# Altium footprint library LED_PcbLib.PcbLib: 3 footprints
Each footprint in its own frame and in the unit in brackets; x right, y up, seen from the top. Pads: shape width x height; smd on the part's side, far side on the other; paste and mask are expansions set on the pad; w line width, h text height; cw(c..) or ccw(c..) is an arc to the next point about the centre after c.
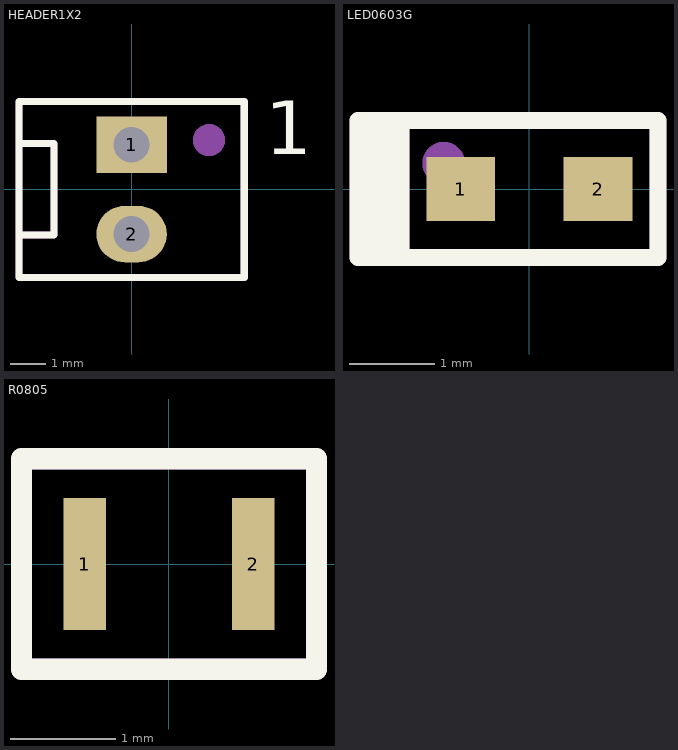
[diagram p0: the footprints below, top view; thin cyan lines are the x and y axes]

## HEADER1X2 [mm]
pads (2):
  rect 2x1.6 hole 1.02: 1(0,1.27)
  oval 2x1.6 hole 1.02: 2(0,-1.27)
Top Overlay:
  lines w0.2: -3.2,-1.3 -2.2,-1.3 -2.2,1.3 -3.2,1.3 ; -3.2,-2.5 3.2,-2.5 3.2,2.5 -3.2,2.5 -3.2,-2.5
  text "1" at 3.8,1 h1.52
Mechanical 29:
  circle w0.508: c2.2,1.4 r0.203
  lines w0.2: -3.2,-1.3 -2.2,-1.3 -2.2,1.3 -3.2,1.3 ; -3.2,-2.5 3.2,-2.5 3.2,2.5 -3.2,2.5 -3.2,-2.5
  text ".Designator" at -0.4,-1.4 h1.2
3D body: height 11.71, standoff -3.55, extent -2.9,-2.54 2.9,2.54

## LED0603G [mm]
pads (2):
  rect 0.8x0.75 smd: 1(-0.8,0) 2(0.8,0)
Top Overlay:
  rectangle: -2,-0.8 -1.4,0.8
  lines w0.2: -2,-0.8 -2,0.8 1.5,0.8 1.5,-0.8 -2,-0.8
Mechanical 29:
  circle w0.3: c-1,0.3 r0.1
  rectangle: -2,-0.8 -1.4,0.8
  lines w0.2: -2,-0.8 1.5,-0.8 1.5,0.8 -2,0.8 -2,-0.8
  text ".Designator" at -0.6,-0.4 h0.7
3D body: height 0.4, standoff 0.01, extent -0.8,-0.4 0.8,0.4

## R0805 [mm]
pads (2):
  rect 0.4x1.25 smd: 1(-0.8,0) 2(0.8,0)
Top Overlay:
  lines w0.2: -1.4,-1 -1.4,1 1.4,1 1.4,-1 -1.4,-1
Mechanical 29:
  lines w0.2: -1.4,-1 1.4,-1 1.4,1 -1.4,1 -1.4,-1
  text ".Designator" at -0.9,-0.4 h0.7
3D body: height 0.61, standoff 0.01, extent -1,-0.625 1,0.625